# EAGLE library part 24AA32A-I/MS (library 24AA32A-I_MS)
IC EEPROM 32KBIT 400KHZ
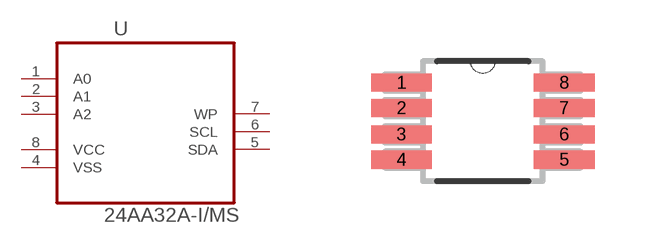
[diagram p0: symbol with the pads of SOP65P490X110-8N; footprint SOP65P490X110-8N]

Designator prefix U

## 24AA32A-I/MS (Availability: Good; Description: 24AA32A Series 32 Kbit _4K X 8_ 5.5 V Surface Mount I2C Serial EEPROM - MSOP-8; MF: Microchip; MP: 24AA32A-I/MS; Package: MSOP-8 Microchip; Price: 0.33 USD)  [SOP65P490X110-8N]
1  A0  nc
2  A1  nc
3  A2  nc
4  VSS  pas
5  SDA
6  SCL  in
7  WP  in
8  VCC  pwr

## Footprint SOP65P490X110-8N (pad centres in mm)
smd 1.524 x 0.457: 1 -2.032,0.965; 2 -2.032,0.33; 3 -2.032,-0.33; 4 -2.032,-0.965; 5 2.032,-0.965; 6 2.032,-0.33; 7 2.032,0.33; 8 2.032,0.965